# Altium footprint library microdevel_lib.pcblib: 22 footprints (part 1 of 2)
Each footprint in its own frame and in the unit in brackets; x right, y up, seen from the top. Pads: shape width x height; smd on the part's side, far side on the other; paste and mask are expansions set on the pad; w line width, h text height; cw(c..) or ccw(c..) is an arc to the next point about the centre after c.
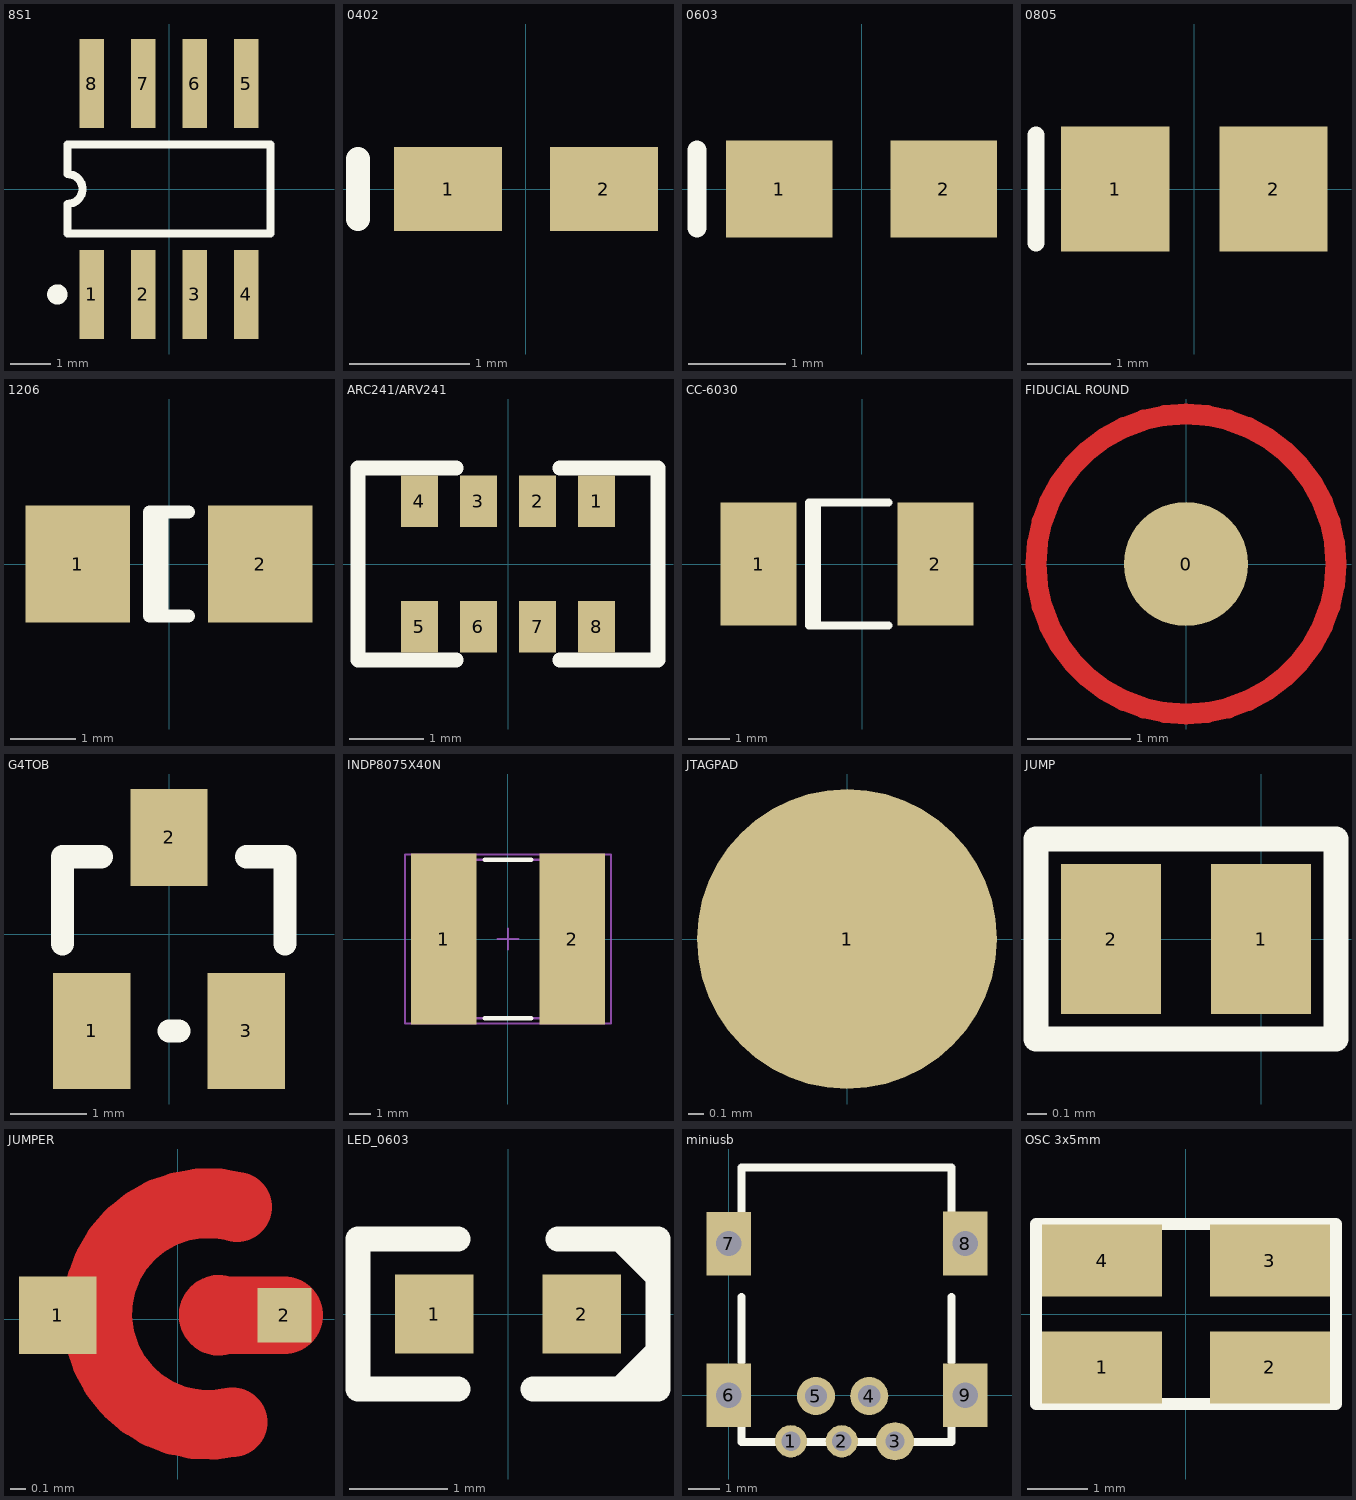
[diagram p0: the footprints below, top view; thin cyan lines are the x and y axes]

## 8S1 [mm] "Small Outline; 8 Leads; Body Width 3.9 mm; Pitch 1.27 mm"
height 1.73
pads (8):
  rect 0.6x2.2 smd: 1(-1.905,-2.6) 2(-0.635,-2.6) 3(0.635,-2.6) 4(1.905,-2.6) 5(1.905,2.6) 6(0.635,2.6) 7(-0.635,2.6) 8(-1.905,2.6)
TopOverlay:
  circle w0.25: c-2.755,-2.6 r0.125
  lines w0.2: -2.5,-1.1 -2.5,-0.367 ccw(c-2.5,0) -2.5,0.367 -2.5,1.1 2.5,1.1 2.5,-1.1 -2.5,-1.1

## 0402 [mm] "Chip Capacitor; Body 1.0 x 0.5 mm (LxW typ)"
height 0.55
pads (2):
  rect 0.9x0.7 smd: 1(-0.65,0) 2(0.65,0)
TopOverlay:
  lines w0.2: -1.4,-0.25 -1.4,0.25

## 0603 [mm] "Chip Capacitor; Body 1.6 x 0.8 mm (LxW typ)"
height 0.87
pads (2):
  rect 1.1x1 smd: 1(-0.85,0) 2(0.85,0)
TopOverlay:
  lines w0.2: -1.7,-0.4 -1.7,0.4
3D body: height 1, standoff 0, extent -1.502,-0.602 1.502,0.602

## 0805 [mm] "Chip Capacitor; Body 2.0 x 1.2 mm (LxW typ)"
height 1.3
pads (2):
  rect 1.3x1.5 smd: 1(-0.95,0) 2(0.95,0)
TopOverlay:
  lines w0.2: -1.9,-0.65 -1.9,0.65
3D body: height 1.25, standoff 0, extent -1.702,-0.852 1.702,0.852

## 1206 [mm] "Chip Capacitor; Body 3.2 x 1.6 mm (LxW typ)"
height 1.5
pads (2):
  rect 1.6x1.8 smd: 1(-1.4,0) 2(1.4,0)
TopOverlay:
  lines w0.2: -0.11,-0.8 -0.11,0.8 ; 0.3,-0.8 -0.3,-0.8 -0.3,0.8 0.3,0.8
3D body: height 1.5, standoff 0, extent -2.302,-1.002 2.302,1.002

## ARC241/ARV241 [mm]
height 6.43
pads (8):
  rect 0.5x0.7 smd: 1(1.2,0.85) 2(0.4,0.85) 3(-0.4,0.85) 4(-1.2,0.85) 5(-1.2,-0.85) 6(-0.4,-0.85) 7(0.4,-0.85) 8(1.2,-0.85)
TopOverlay:
  lines w0.2: -0.7,-1.3 -2.032,-1.3 -2.032,1.3 -0.7,1.3 ; 0.7,-1.3 2.032,-1.3 2.032,1.3 0.7,1.3

## CC-6030 [mm]
height 1.1
pads (2):
  rect 1.85x3 smd: 1(-2.525,0) 2(1.778,0)
TopOverlay:
  lines w0.2: -1.11,-1.5 -1.11,1.5 ; 0.64,-1.5 -1.3,-1.5 -1.3,1.5 0.64,1.5

## FIDUCIAL ROUND [mm] "FIDUCIAL ROUND"
pads (1):
  round 1.2 smd paste+0 mask+0.9: 0(0,0)
TopLayer:
  circle w0.2: c0,0 r1.45

## G4TOB [mil]
height 43.31
pads (3):
  rect 40x60 smd: 1(-40,-50) 3(40,-50)
  rect 40x50 smd: 2(0,50)
TopOverlay:
  lines w12: -55,-5 -55,40 -35,40 ; 0,-50 5,-50 ; 40,40 60,40 60,-5

## INDP8075X40N [mm] "Precision Wire Wound Inductor, 2-Leads, Body 8.0x7.5mm, IPC Medium Density"
height 4
pads (2):
  rect 3.1x8.1 smd: 1(-3.05,0) 2(3.05,0)
TopOverlay:
  lines w0.2: -1.1,-3.75 1.1,-3.75 ; -1.1,3.75 1.1,3.75
Mechanical13:
  lines w0.1: -4.05,-3.75 -4.05,3.75 4.05,3.75 4.05,-3.75 -4.05,-3.75
Mechanical15:
  lines w0.1: -0.5,0 0.5,0 ; 0,-0.5 0,0.5 ; -4.875,-4 -4.875,4 4.875,4 4.875,-4 -4.875,-4
3D body: height 4, standoff 0, extent -4.05,-3.75 4.05,3.75

## JTAGPAD [mm]
pads (1):
  round 2 smd: 1(0,0)

## JUMP [mil]
pads (2):
  rect 20x30 smd: 1(0,0) 2(-30,0)
TopOverlay:
  lines w5: -45,-20 15,-20 15,20 -45,20 -45,-20

## JUMPER [mm]
pads (2):
  rect 0.5x0.5 smd mask+0: 1(-0.775,0.025)
  rect 0.35x0.35 smd mask+0: 2(0.687,0.025)
TopLayer:
  circle w0.25: c0.265,0.025 r0.135
  lines w0.45: 0.353,-0.665 cw(c0.195,0.033) 0.382,0.724
  lines w0.5: 0.325,0.025 0.687,0.025
TopSolder:
  circle w0.783: c-0.079,0 r0.279
  lines w0.401: 0.353,-0.665 cw(c0.195,0.033) 0.382,0.724

## LED_0603 [mm]
pads (2):
  rect 0.8x0.8 smd: 1(-0.75,0) 2(0.75,0)
TopOverlay:
  lines w0.25: -0.508,-0.762 -1.524,-0.762 -1.524,0.762 -1.016,0.762 -0.508,0.762 ; 0.254,-0.762 1.524,-0.762 1.524,0.762 0.508,0.762
  lines w0.254: 1.016,0.762 1.143,0.762 1.524,0.381 ; 1.143,-0.762 1.524,-0.381

## miniusb [mm]
pads (9):
  round 1.016 hole 0.6: 1(1.956,-1.448) 2(3.556,-1.448)
  round 1.2 hole 0.6: 3(5.232,-1.448)
  round 1.2 hole 0.7: 4(4.42,-0.024) 5(2.743,-0.024)
  rect 1.4x2 hole 0.8: 6(0,0) 7(0,4.775) 8(7.442,4.776) 9(7.442,0)
TopOverlay:
  lines w0.254: 0.406,-0.965 0.406,-1.473 7.01,-1.473 7.01,-0.965 ; 0.406,1.067 0.406,3.099 ; 0.406,5.131 0.406,7.163 7.01,7.163 7.01,5.131 ; 7.01,1.067 7.01,3.099
Mechanical1:
  lines w0.203: -0.425,4.039 -0.425,5.539 0.475,5.539 0.475,4.039 -0.425,4.039 ; -0.399,-0.75 -0.399,0.75 0.501,0.75 0.501,-0.75 -0.399,-0.75 ; 6.916,-0.75 6.916,0.75 7.816,0.75 7.816,-0.75 6.916,-0.75 ; 6.974,4.039 6.974,5.539 7.874,5.539 7.874,4.039 6.974,4.039

## OSC 3x5mm [mm]
height 1.1
pads (4):
  rect 2x1.2 smd: 1(-1.397,-0.889) 2(1.397,-0.889) 3(1.397,0.889) 4(-1.397,0.889)
TopOverlay:
  lines w0.2: -2.5,-1.5 2.5,-1.5 2.5,1.5 -2.5,1.5 -2.5,-1.5